# Altium footprint library PHOENIX_1729160.PcbLib: 1 footprints
Each footprint in its own frame and in the unit in brackets; x right, y up, seen from the top. Pads: shape width x height; smd on the part's side, far side on the other; paste and mask are expansions set on the pad; w line width, h text height; cw(c..) or ccw(c..) is an arc to the next point about the centre after c.
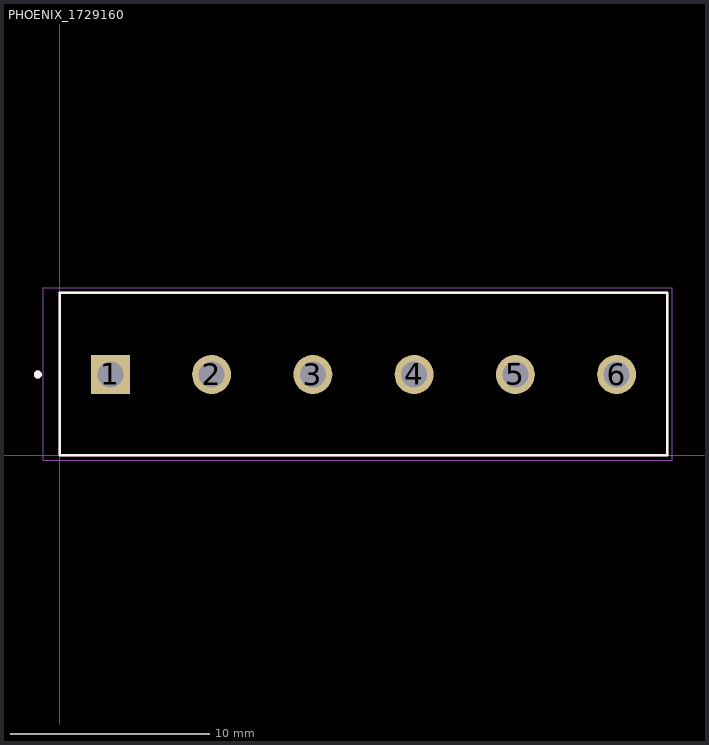
[diagram p0: the footprint, top view; thin cyan lines are the x and y axes]

## PHOENIX_1729160 [mm]
pads (6):
  rect 1.95x1.95 / inner round 1.95 / far side rect 1.95x1.95 hole 1.3: 1(2.54,4.05)
  round 1.95 hole 1.3: 2(7.62,4.05) 3(12.7,4.05) 4(17.78,4.05) 5(22.86,4.05) 6(27.94,4.05)
Top Overlay:
  circle w0.2: c-1.1,4.05 r0.1
  lines w0.127: 0,0 0,8.15 30.48,8.15 30.48,0 0,0
Mechanical 13:
  circle w0.2: c-1.1,4.05 r0.1
  lines w0.127: 0,0 0,8.15 30.48,8.15 30.48,0 0,0
Mechanical 15:
  lines w0.05: -0.82,-0.25 -0.82,8.4 30.73,8.4 30.73,-0.25 -0.82,-0.25